# Altium footprint library Rectifier Bridge.PcbLib: 1 footprints
Each footprint in its own frame and in the unit in brackets; x right, y up, seen from the top. Pads: shape width x height; smd on the part's side, far side on the other; paste and mask are expansions set on the pad; w line width, h text height; cw(c..) or ccw(c..) is an arc to the next point about the centre after c.
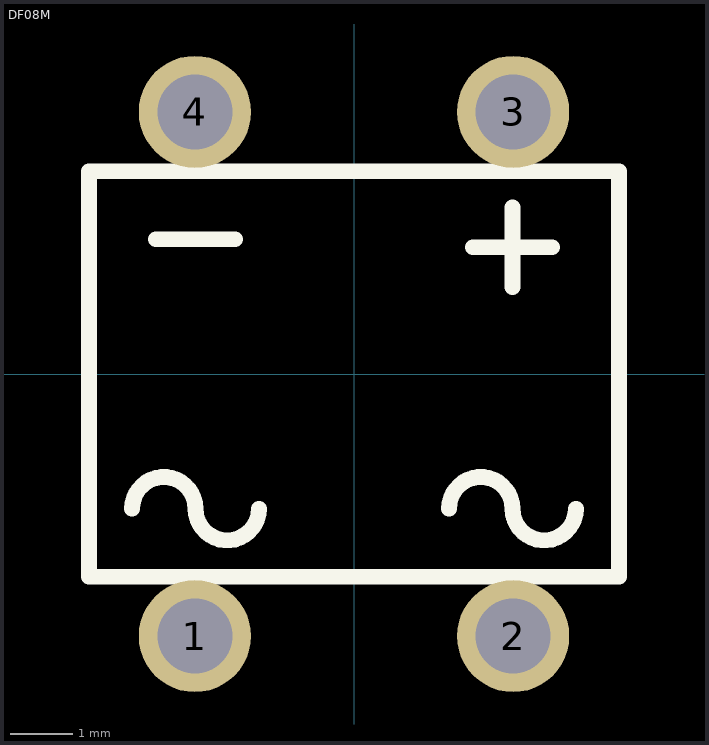
[diagram p0: the footprint, top view; thin cyan lines are the x and y axes]

## DF08M [mm]
pads (4):
  round 1.8 hole 1.2 paste-2539.97 mask+0.051: 1(-2.55,-4.2) 2(2.55,-4.2) 3(2.55,4.2) 4(-2.55,4.2)
Top Overlay:
  lines w0.254: -3.556,-2.159 cw(c-3.048,-2.159) -2.54,-2.159 ccw(c-2.032,-2.159) -1.524,-2.159 ; -3.175,2.159 -1.905,2.159 ; 1.524,-2.159 cw(c2.032,-2.159) 2.54,-2.159 ccw(c3.048,-2.159) 3.556,-2.159 ; 1.905,2.032 3.175,2.032 ; 2.54,1.397 2.54,2.667 ; -4.25,-3.25 4.25,-3.25 4.25,3.25 -4.25,3.25 -4.25,-3.25
3D body "DF08M.STEP": height 3.33, standoff -4.66, extent -4.157,-4.125 4.157,4.125